# EAGLE library part FTS-105-01-L-DV (library Badge_v202004081200_Eagle_Library_regex)
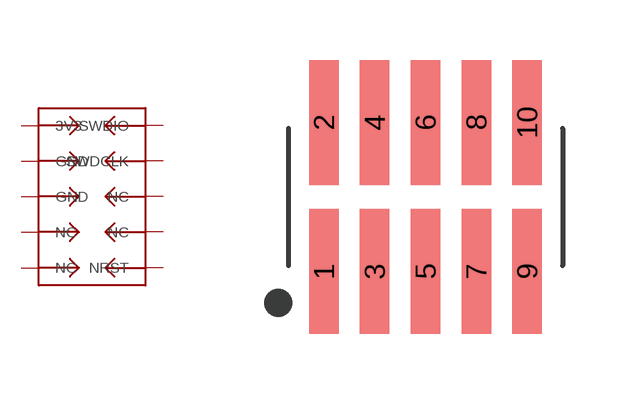
[diagram p5: symbol with the pads of SAMTEC_HDR-2X5S_1.27X1.27_6X6; footprint SAMTEC_HDR-2X5S_1.27X1.27_6X6]

Designator prefix J

## FTS-105-01-L-DV (DATASHEET: http://datasheets.diptrace.com/con_headers/FTS-1XX-XX-XX-XX-XX-MKT.pdf; MANUFACTURER: Samtec)  [SAMTEC_HDR-2X5S_1.27X1.27_6X6]
1  3V3  pas
2  SWDIO  pas
3  GND  pas
4  SWDCLK  pas
5  GND  pas
6  NC  pas
7  NC  pas
8  NC  pas
9  NC  pas
10  NRST  pas

## Footprint SAMTEC_HDR-2X5S_1.27X1.27_6X6 (pad centres in mm)
smd 0.74 x 3.13: 1 -2.54,-1.865; 2 -2.54,1.865; 3 -1.27,-1.865; 4 -1.27,1.865; 5 0,-1.865; 6 0,1.865; 7 1.27,-1.865; 8 1.27,1.865; 9 2.54,-1.865; 10 2.54,1.865